# Altium footprint library eecs52_Tim.PcbLib: 2 footprints
Each footprint in its own frame and in the unit in brackets; x right, y up, seen from the top. Pads: shape width x height; smd on the part's side, far side on the other; paste and mask are expansions set on the pad; w line width, h text height; cw(c..) or ccw(c..) is an arc to the next point about the centre after c.
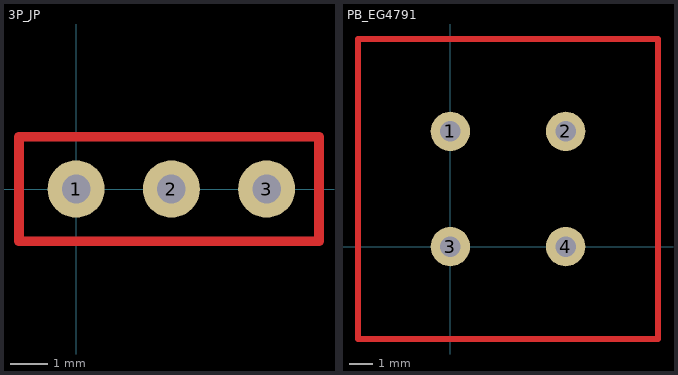
[diagram p0: the footprints below, top view; thin cyan lines are the x and y axes]

## 3P_JP [mil]
pads (3):
  round 60 hole 30: 1(0,0) 2(100,0) 3(200,0)
Top Layer:
  lines w10: -60,-55 255,-55 255,55 -60,55 -60,18.75 -60,-33.75 -60,-55

## PB_EG4791 [mm]
pads (4):
  round 1.7 hole 0.9: 1(0,5) 2(5,5) 3(0,0) 4(5,0)
Top Layer:
  lines w0.254: -4,-4 9,-4 9,9 -4,9 -4,-4